# Altium footprint library HSBNE-Vend.PcbLib: 47 footprints (part 1 of 3)
Each footprint in its own frame and in the unit in brackets; x right, y up, seen from the top. Pads: shape width x height; smd on the part's side, far side on the other; paste and mask are expansions set on the pad; w line width, h text height; cw(c..) or ccw(c..) is an arc to the next point about the centre after c.
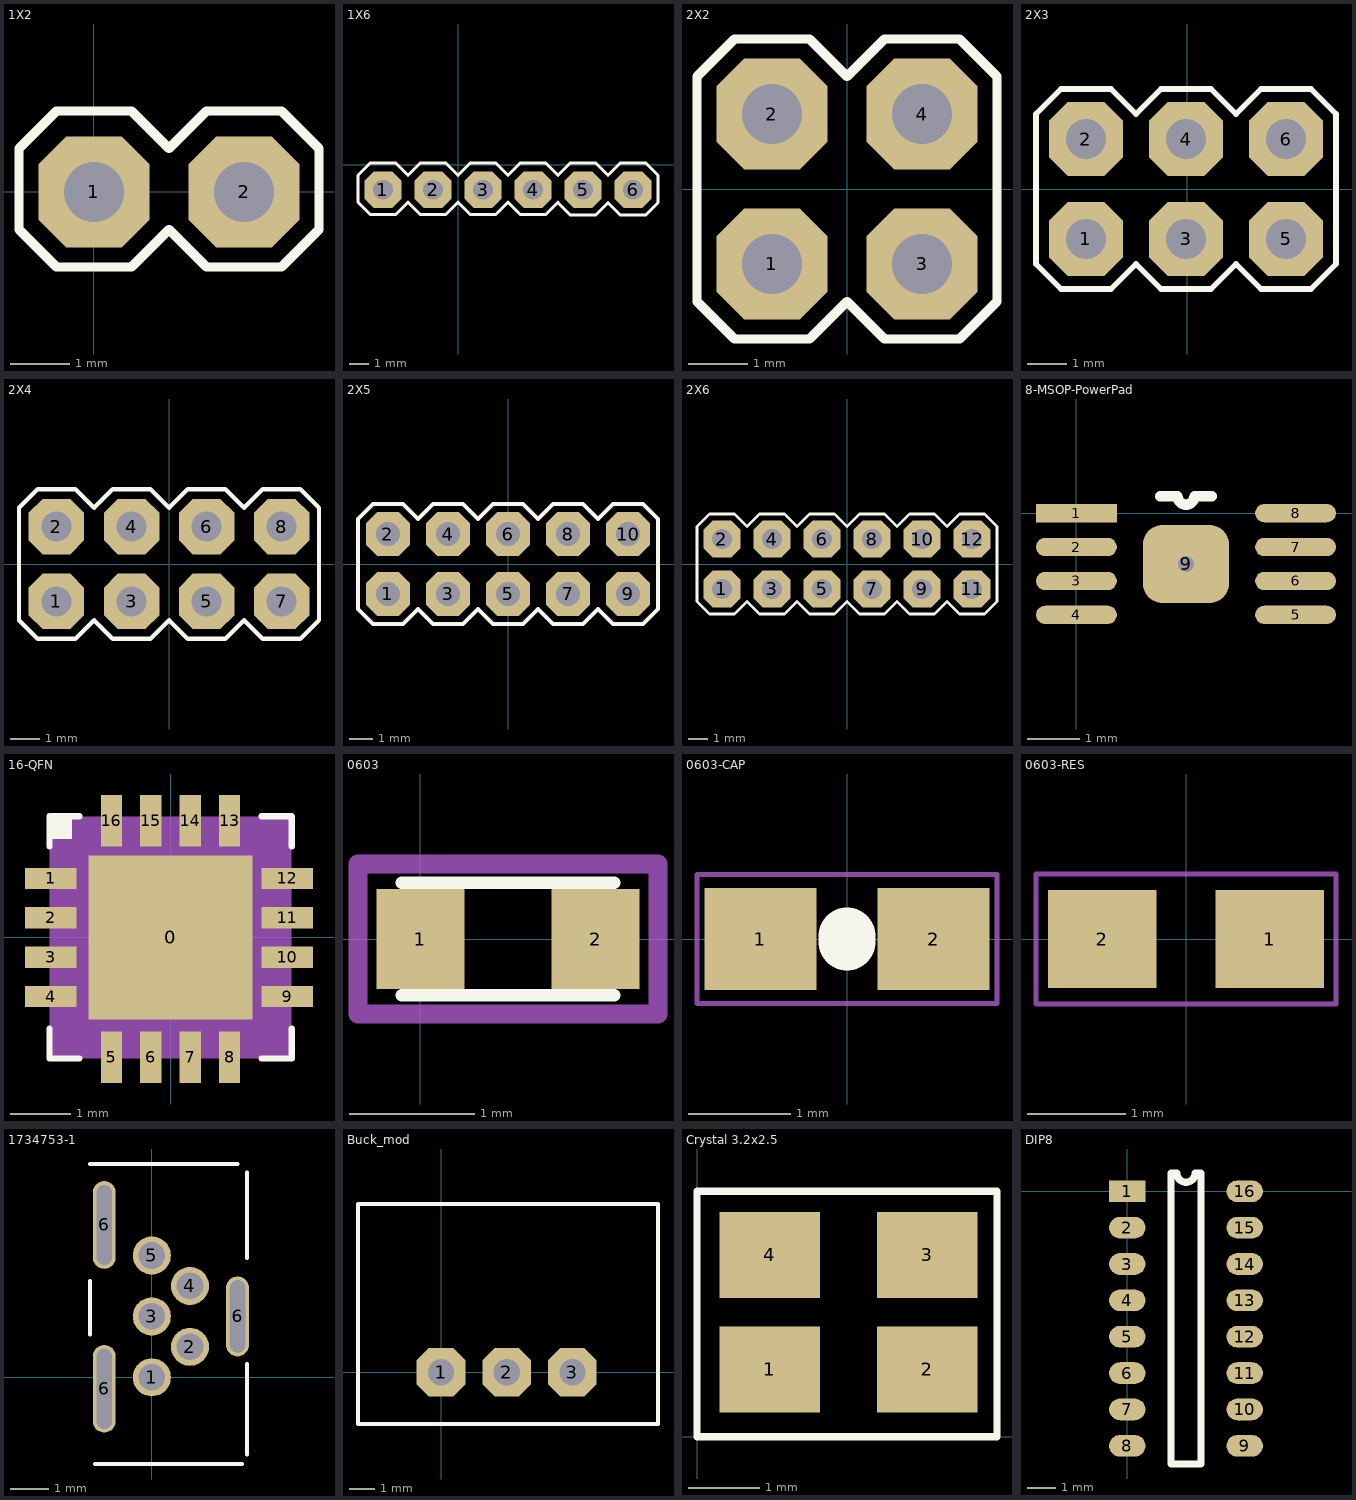
[diagram p0: the footprints below, top view; thin cyan lines are the x and y axes]

## 1X2 [mil]
pads (2):
  oct 74x74 hole 40: 1(0,0) 2(100,0)
Top Overlay:
  lines w6: -50,-25 -50,29 -25,54 25,54 50,29 75,54 125,54 150,29 150,-25 125,-50 75,-50 50,-25 25,-50 -25,-50 -50,-25

## 1X6 [mil]
pads (6):
  oct 74x74 hole 40: 1(-150,-50) 2(-50,-50) 3(50,-50) 4(150,-50) 5(250,-50) 6(350,-50)
Top Overlay:
  lines w6: 200,-76 225,-101 275,-101 300,-76 325,-101 375,-101 400,-76 400,-21 375,4 325,4 300,-21 275,4 225,4 200,-21 175,4 125,4 100,-21 75,4 25,4 0,-21 -25,4 -75,4 -100,-21 -125,4 -175,4 -200,-21 -200,-75 -175,-100 -125,-100 -100,-75 -75,-100 -25,-100 0,-75 25,-100 75,-100 100,-75 125,-100 175,-100 200,-75
3D body "Samtec-HMTSW-106-06-F-S-0.STEP": height 298.48, standoff -1.62, extent -200,-99.99 400,0.01

## 2X2 [mil]
pads (4):
  oct 74x74 hole 40: 1(-50,-50) 2(-50,50) 3(50,-50) 4(50,50)
Top Overlay:
  lines w6: -100,-75 -75,-100 -25,-100 0,-75 25,-100 75,-100 100,-75 100,75 75,100 25,100 0,75 -25,100 -75,100 -100,75 -100,-75

## 2X3 [mil]
pads (6):
  oct 74x74 hole 40: 1(-101.18,-50) 2(-101.18,50) 3(-1.18,-50) 4(-1.18,50) 5(98.82,-50) 6(98.82,50)
Top Overlay:
  lines w6: -151.18,-75 -126.18,-100 -76.18,-100 -51.18,-75 -26.18,-100 23.82,-100 48.82,-75 73.82,-100 123.82,-100 148.82,-75 148.82,75 123.82,100 73.82,100 48.82,75 23.82,100 -26.18,100 -51.18,75 -76.18,100 -126.18,100 -151.18,75 -151.18,-75
3D body "User Library-HEADER, 2X3, 2_54MM X 2_54MM PITCH, VERT, TH.STEP": height 330, standoff -150, extent -150,-100 150,100

## 2X4 [mil]
pads (8):
  oct 74x74 hole 40: 1(-150,-50) 2(-150,50) 3(-50,-50) 4(-50,50) 5(50,-50) 6(50,50) 7(150,-50) 8(150,50)
Top Overlay:
  lines w6: -200,-75 -175,-100 -125,-100 -100,-75 -75,-100 -25,-100 0,-75 25,-100 75,-100 100,-75 125,-100 175,-100 200,-75 200,75 175,100 125,100 100,75 75,100 25,100 0,75 -25,100 -75,100 -100,75 -125,100 -175,100 -200,75 -200,-75

## 2X5 [mil]
pads (10):
  oct 74x74 hole 40: 1(-200,-50) 2(-200,50) 3(-100,-50) 4(-100,50) 5(0,-50) 6(0,50) 7(100,-50) 8(100,50) 9(200,-50) 10(200,50)
Top Overlay:
  lines w6: -250,-75 -225,-100 -175,-100 -150,-75 -125,-100 -75,-100 -50,-75 -25,-100 25,-100 50,-75 75,-100 125,-100 150,-75 175,-100 225,-100 250,-75 250,75 225,100 175,100 150,75 125,100 75,100 50,75 25,100 -25,100 -50,75 -75,100 -125,100 -150,75 -175,100 -225,100 -250,75 -250,-75
3D body "7731312210lf.stp": height 396.73, standoff -128.86, extent -242.13,-95.16 242.12,95

## 2X6 [mil]
pads (12):
  oct 74x74 hole 40: 1(-250,-50) 2(-250,50) 3(-150,-50) 4(-150,50) 5(-50,-50) 6(-50,50) 7(50,-50) 8(50,50) 9(150,-50) 10(150,50) 11(250,-50) 12(250,50)
Top Overlay:
  lines w6: -300,-75 -300,75 -275,100 -225,100 -200,75 -175,100 -125,100 -100,75 -75,100 -25,100 0,75 25,100 75,100 100,75 125,100 175,100 200,75 225,100 275,100 300,75 300,-75 275,-100 225,-100 200,-75 175,-100 125,-100 100,-75 75,-100 25,-100 0,-75 -25,-100 -75,-100 -100,-75 -125,-100 -175,-100 -200,-75 -225,-100 -275,-100 -300,-75

## 8-MSOP-PowerPad [mm]
pads (9):
  rect 1.55x0.35 smd: 1(0,0)
  oval 1.55x0.35 smd: 2(0,-0.65) 3(0,-1.3) 4(0,-1.95) 5(4.2,-1.95) 6(4.2,-1.3) 7(4.2,-0.65) 8(4.2,0)
  rrect50% 1.65x1.5 smd paste-0.1: 9(2.1,-0.975)
via 2.1,-0.975 diameter 0.6 hole 0.3
Top Overlay:
  lines w0.2: 1.61,0.325 1.937,0.325 ccw(c2.1,0.325) 2.262,0.325 2.59,0.325
3D body "User Library-MSOP-8-1.step": height 0.92, standoff 0, extent -0.4,-2.475 4.6,0.525

## 16-QFN [mm]
pads (17):
  rect 2.7x2.7 smd: 0(0,0)
  rect 0.85x0.35 smd: 1(-1.975,0.975) 2(-1.975,0.325) 3(-1.975,-0.325) 4(-1.975,-0.975) 9(1.925,-0.975) 10(1.925,-0.325) 11(1.925,0.325) 12(1.925,0.975)
  rect 0.35x0.85 smd: 5(-0.975,-1.975) 6(-0.325,-1.975) 7(0.325,-1.975) 8(0.975,-1.975) 13(0.975,1.925) 14(0.325,1.925) 15(-0.325,1.925) 16(-0.975,1.925)
Top Overlay:
  rectangle: -2,1.625 -1.625,2
  lines w0.1: -2,-1.5 -2,-2 -1.5,-2 ; -2,1.5 -2,2 -1.5,2 ; 1.5,-2 2,-2 2,-1.5 ; 1.5,2 2,2 2,1.5
Top Solder:
  rectangle: -1,1.325 1,2.45
  rectangle: 1.225,-1.15 2.45,1.025
  rectangle: -1.2,-2.5 1.075,-1.375
  rectangle: -2.5,-1.25 -1.275,1.25
Mechanical 3:
  rectangle: -2,-2 2,2

## 0603 [mm]
height 0.8
pads (2):
  rect 0.7x0.8 smd paste+0 mask+0.1: 1(0,0) 2(1.4,0)
Top Overlay:
  lines w0.1: -0.15,-0.45 1.55,-0.45 ; -0.15,0.45 1.55,0.45
Mechanical 2:
  lines w0.15: -0.5,-0.6 1.9,-0.6 1.9,0.6 -0.5,0.6 -0.5,-0.6
3D body: height 0.53, standoff 0, extent -0.15,-0.45 1.55,0.45

## 0603-CAP [mm]
pads (2):
  rect 1.1x1 smd: 1(-0.85,0) 2(0.85,0)
Top Overlay:
  lines w0.559: 0,-0.03 0,0.03
Mechanical 13:
  lines w0.051: -1.473,-0.635 -1.473,0.635 1.473,0.635 1.473,-0.635 -1.473,-0.635

## 0603-RES [mm]
pads (2):
  rect 1.1x1 smd: 1(0.85,0) 2(-0.85,0)
Mechanical 13:
  lines w0.051: -1.524,-0.66 1.524,-0.66 1.524,0.66 -1.524,0.66 -1.524,-0.66

## 1734753-1 [mm] "CONN MINI USB RCPT RA TYPE B VERT"
height 3.93
pads (8):
  round 1 hole 0.7: 1(0,0) 2(1,0.8) 3(0,1.6) 4(1,2.4) 5(0,3.2)
  oval 0.6x2.3 hole 0.4 slot 2.1 at 90 deg: 6(-1.25,-0.3) 6(-1.25,4)
  oval 0.6x2.1 hole 0.4 slot 1.9 at 90 deg: 6(2.25,1.6)
Top Overlay:
  lines w0.1: -1.625,1.125 -1.625,2.525 ; -1.625,5.6 2.25,5.6 ; -1.5,-2.275 2.375,-2.275 ; 2.5,-2.025 2.5,0.35 ; 2.5,3.125 2.5,5.375

## Buck_mod [mil]
pads (3):
  oct 74x74 hole 40: 1(0,0) 2(100,0) 3(200,0)
Top Overlay:
  lines w5.98: -126.38,-78.74 -126.38,255.91 ; 330.31,-78.74 330.31,255.91
  lines w6: -126.38,-78.74 330.31,-78.74 ; -126.38,255.91 330.31,255.91
3D body: height 409.45, standoff 0, extent -125,-80 330,255

## Crystal 3.2x2.5 [mm]
pads (4):
  rect 1.4x1.2 smd: 1(1.016,0.94) 2(3.216,0.94) 3(3.216,2.54) 4(1.016,2.54)
Top Overlay:
  lines w0.1: 0,0 4.191,0 4.191,3.429 0,3.429 0,0
3D body "User Library-GeyerElectronics_KX6.STEP": height 0.56, standoff 0, extent 0.772,0.778 3.292,2.778

## DIP8 [mm]
pads (16):
  rect 1.27x0.76 smd: 1(0,0)
  oval 1.27x0.76 smd: 2(0,-1.27) 3(0,-2.54) 4(0,-3.81) 5(0,-5.08) 6(0,-6.35) 7(0,-7.62) 8(0,-8.89) 9(4.1,-8.89) 10(4.1,-7.62) 11(4.1,-6.35) 12(4.1,-5.08) 13(4.1,-3.81) 14(4.1,-2.54) 15(4.1,-1.27) 16(4.1,0)
Top Overlay:
  lines w0.254: 1.524,-9.525 2.576,-9.525 2.576,0.635 2.367,0.635 cw(c2.05,0.635) 1.732,0.635 1.524,0.635 1.524,-9.525
3D body "CHS-08TA.stp": height 2.42, standoff -0.1, extent -0.768,-10.295 4.832,1.405